# Altium footprint library PcbLib.PcbLib: 3 footprints
Each footprint in its own frame and in the unit in brackets; x right, y up, seen from the top. Pads: shape width x height; smd on the part's side, far side on the other; paste and mask are expansions set on the pad; w line width, h text height; cw(c..) or ccw(c..) is an arc to the next point about the centre after c.
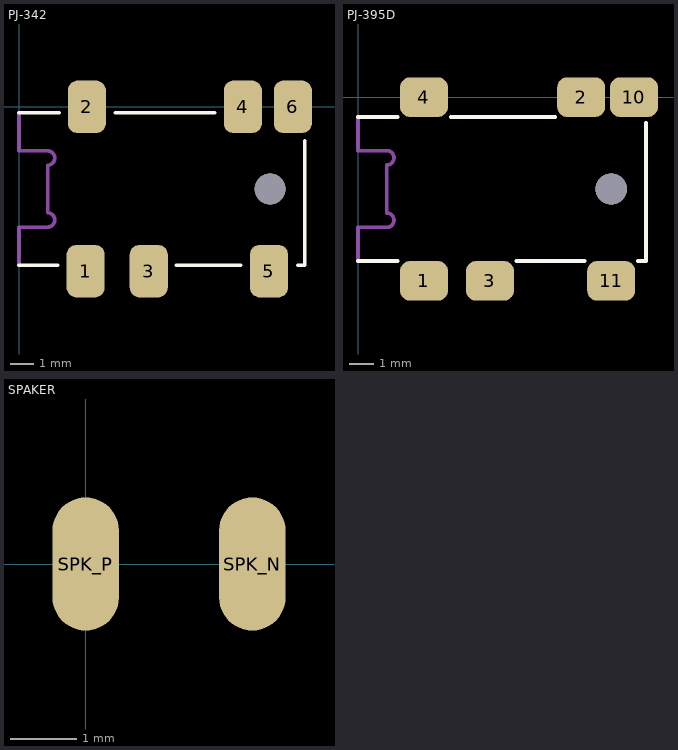
[diagram p0: the footprints below, top view; thin cyan lines are the x and y axes]

## PJ-342 [mm]
pads (7):
  rrect50% 1.6x2.2 smd: 1(2.8,-6.9) 2(2.85,0) 3(5.45,-6.9) 4(9.4,0) 5(10.5,-6.9) 6(11.5,0)
  round 1.3 hole 1.3: ""(10.55,-3.45)
Top Overlay:
  lines w0.152: 0,-6.65 1.625,-6.65 ; 0,-0.25 1.68,-0.25 ; 4.055,-0.25 8.22,-0.25 ; 6.61,-6.65 9.315,-6.65 ; 11.72,-6.65 12,-6.65 12,-1.43
Mechanical 1:
  lines w0.152: 0,-6.65 0,-5.05 1.2,-5.05 ccw(c1.2,-4.75) 1.2,-4.45 1.2,-2.45 ccw(c1.2,-2.15) 1.2,-1.85 0,-1.85 0,-0.25

## PJ-395D [mm]
pads (7):
  rrect50% 2x1.65 smd: 1(2.75,-7.65) 2(9.3,0) 3(5.5,-7.65) 4(2.75,0) 10(11.5,0) 11(10.55,-7.65)
  round 1.31 hole 1.31: ""(10.55,-3.825)
Top Overlay:
  lines w0.152: 0,-6.825 1.65,-6.825 ; 0,-0.825 1.65,-0.825 ; 3.865,-0.825 8.21,-0.825 ; 6.6,-6.825 9.445,-6.825 ; 11.66,-6.825 12,-6.825 12,-1.06
Mechanical 1:
  lines w0.152: 0,-6.825 0,-5.425 1.2,-5.425 ccw(c1.2,-5.125) 1.2,-4.825 1.2,-2.825 ccw(c1.2,-2.525) 1.2,-2.225 0,-2.225 0,-0.825

## SPAKER [mm]
pads (2):
  oval 1x2 smd: SPK_N(2.5,0) SPK_P(0,0)